# Altium footprint library SnapEDApcb.PcbLib: 1 footprints
Each footprint in its own frame and in the unit in brackets; x right, y up, seen from the top. Pads: shape width x height; smd on the part's side, far side on the other; paste and mask are expansions set on the pad; w line width, h text height; cw(c..) or ccw(c..) is an arc to the next point about the centre after c.
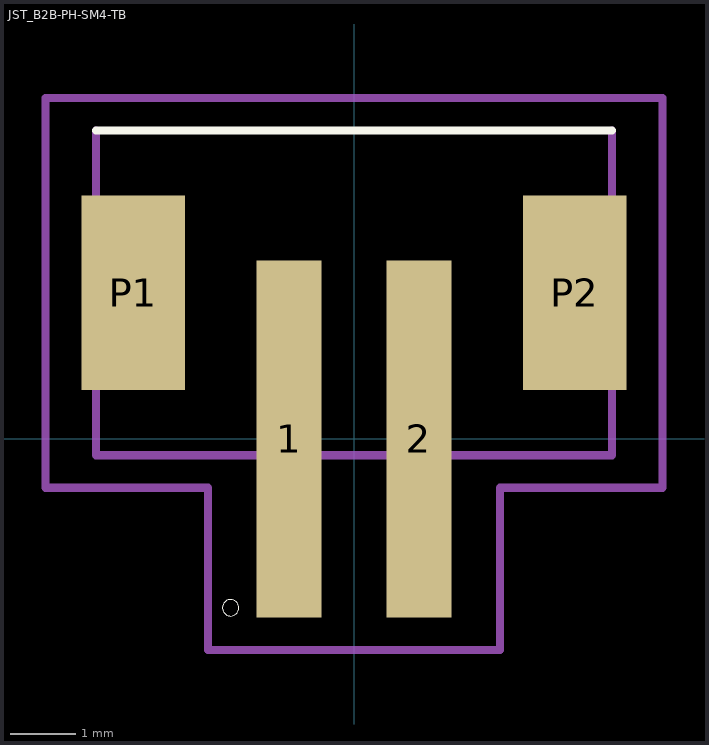
[diagram p0: the footprint, top view; thin cyan lines are the x and y axes]

## JST_B2B-PH-SM4-TB [mm]
pads (4):
  rect 1x5.5 smd: 1(-1,0) 2(1,0)
  rect 1.6x3 smd: P1(-3.4,2.25) P2(3.4,2.25)
Top Overlay:
  circle w0: c-1.9,-2.6 r0.127
  lines w0.127: -3.975,4.75 3.975,4.75
Mechanical 13:
  lines w0.127: -3.975,4.75 -3.975,-0.25 3.975,-0.25 3.975,4.75
Mechanical 15:
  lines w0.127: -4.75,-0.75 -4.75,5.25 4.75,5.25 4.75,-0.75 2.25,-0.75 2.25,-3.25 -2.25,-3.25 -2.25,-0.75 -4.75,-0.75